# EAGLE library part FPC/FFC-16-1.0 (library Bits_library_eagle 9x)
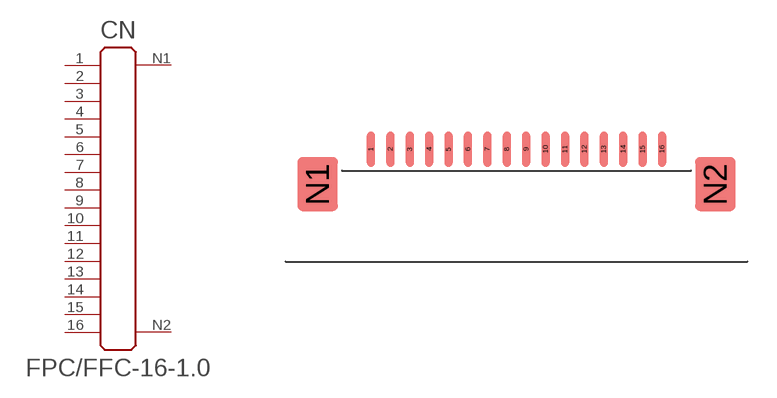
[diagram p91: symbol with the pads of F52R-1A7H1-11016; footprint F52R-1A7H1-11016]

Designator prefix CN

## FPC/FFC-16-1.0  [F52R-1A7H1-11016]
1  1
2  2
3  3
4  4
5  5
6  6
7  7
8  8
9  9
10  10
11  11
12  12
13  13
14  14
15  15
16  16
N1  N1
N2  N2

## Footprint F52R-1A7H1-11016 (pad centres in mm)
smd 0.4 x 1.8: 1 -7.5,0.3; 2 -6.5,0.3; 3 -5.5,0.3; 4 -4.5,0.3; 5 -3.5,0.3; 6 -2.5,0.3; 7 -1.5,0.3; 8 -0.5,0.3; 9 0.5,0.3; 10 1.5,0.3; 11 2.5,0.3; 12 3.5,0.3; 13 4.5,0.3; 14 5.5,0.3; 15 6.5,0.3; 16 7.5,0.3
smd 2.1 x 2.8: N1 -10.25,-1.5; N2 10.25,-1.5